# Altium footprint library My_Library.PcbLib: 118 footprints (part 6 of 8)
Each footprint in its own frame and in the unit in brackets; x right, y up, seen from the top. Pads: shape width x height; smd on the part's side, far side on the other; paste and mask are expansions set on the pad; w line width, h text height; cw(c..) or ccw(c..) is an arc to the next point about the centre after c.
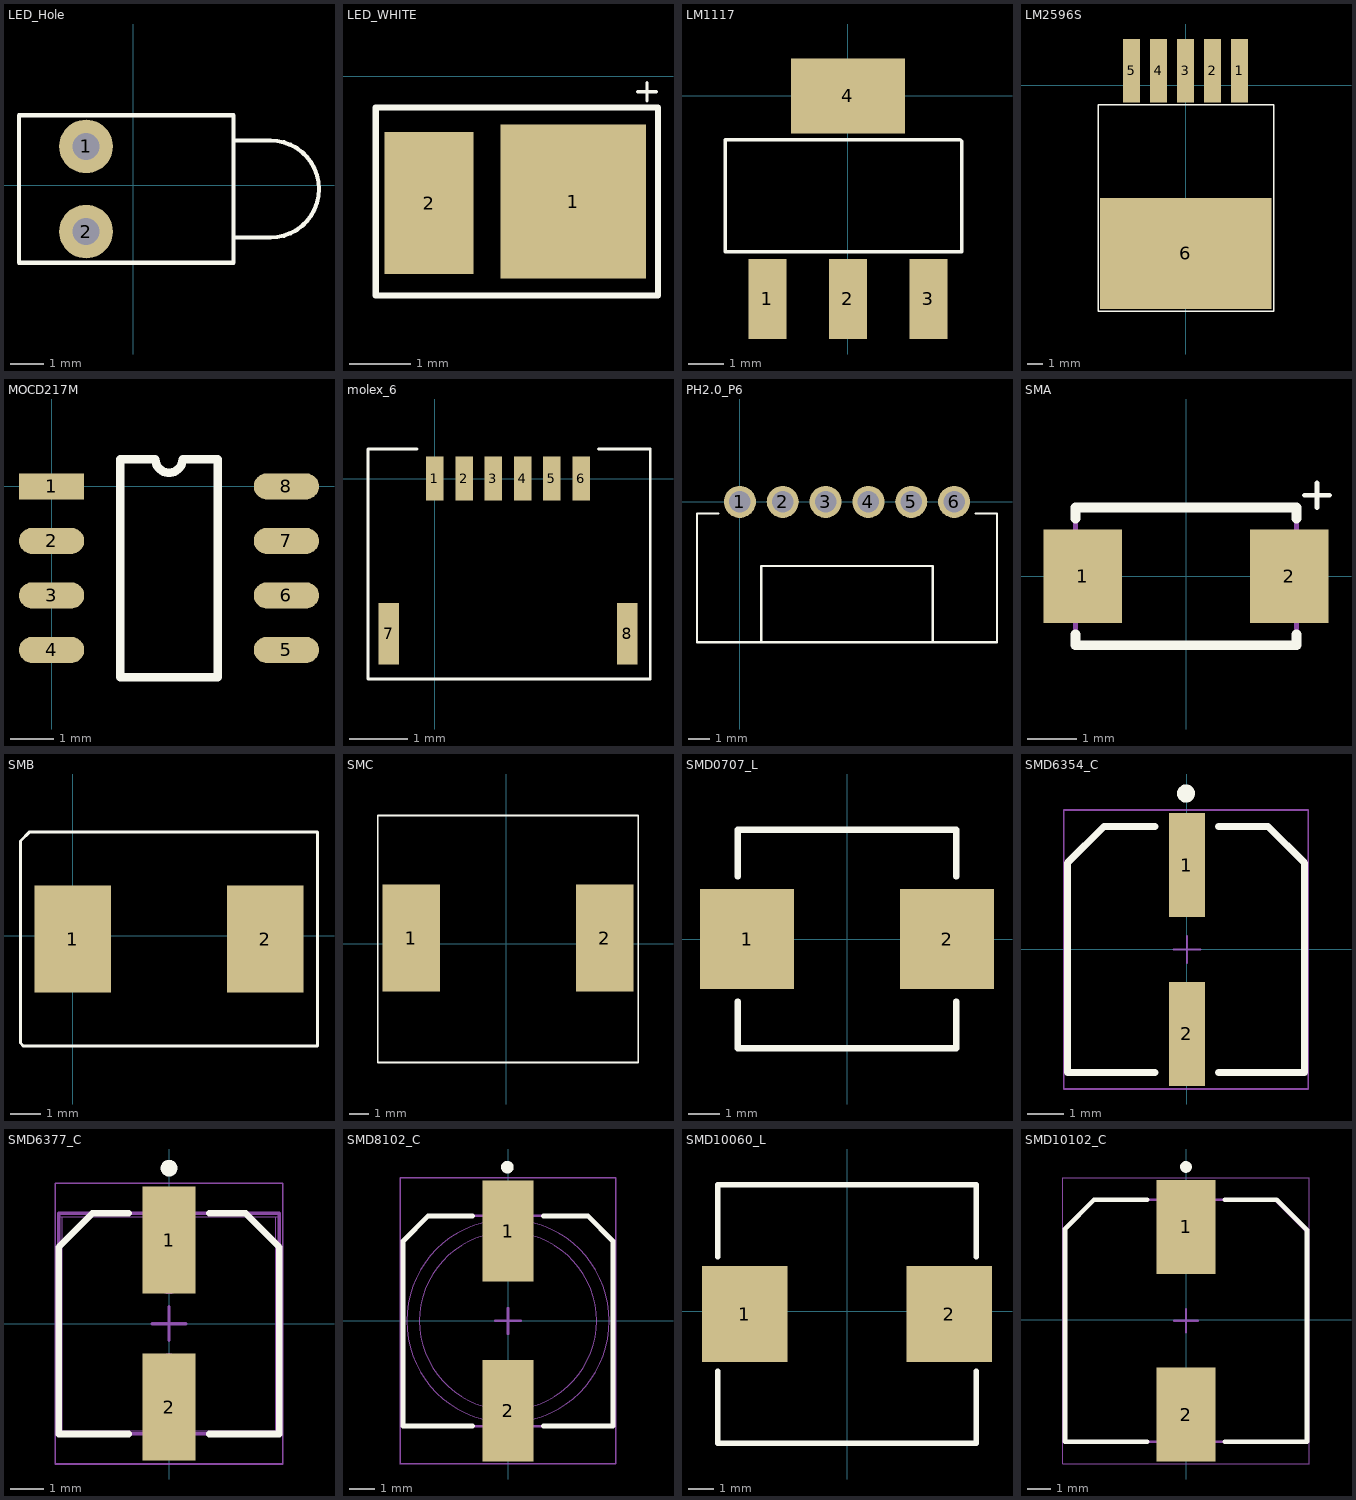
[diagram p5: the footprints below, top view; thin cyan lines are the x and y axes]

## LED_Hole [mm]
pads (2):
  round 1.6 hole 0.8: 1(-1.404,1.165) 2(-1.404,-1.375)
Top Overlay:
  lines w0.127: 2.996,-1.555 4.096,-1.555 ccw(c4.096,-0.105) 4.096,1.345 2.996,1.345 ; -3.404,-2.305 2.996,-2.305 2.996,2.095 -3.404,2.095 -3.404,-2.305

## LED_WHITE [mm]
pads (2):
  rect 2.36x2.49 smd: 1(10.185,-2.032)
  rect 1.44x2.3 smd: 2(7.849,-2.057)
Top Overlay:
  lines w0.05: 11.227,-0.254 11.532,-0.254 ; 11.379,-0.406 11.379,-0.102
  lines w0.1: 6.985,-3.556 6.985,-0.508 10.287,-0.508 11.557,-0.508 11.557,-3.556 11.303,-3.556 10.287,-3.556 6.985,-3.556
3D body: height 0.6, standoff 0, extent 6.985,-3.556 11.557,-0.508

## LM1117 [mm]
pads (4):
  rect 1.09x2.29 smd: 1(-2.3,-5.8) 2(0,-5.8) 3(2.3,-5.8)
  rect 3.25x2.15 smd: 4(0,0)
Top Overlay:
  lines w0.1: -3.5,-4.45 -3.5,-1.25 3.2,-1.25 3.25,-1.3 3.25,-4.45 -3.5,-4.45
3D body: height 1.8, standoff 0, extent -3.5,-4.45 3.25,-1.25

## LM2596S [mm]
pads (6):
  rect 1.07x4 smd: 1(3.4,0.9) 2(1.7,0.9) 3(0,0.9) 4(-1.7,0.9) 5(-3.4,0.9)
  rect 10.8x6.99 smd: 6(0,-10.6)
Top Overlay:
  lines w0.1: -5.5,-14.25 -5.5,-1.25 5.55,-1.25 5.55,-14.25 -5.5,-14.25
3D body: height 4.6, standoff 0, extent -5.5,-13.8 5.5,-1.25

## MOCD217M [mm]
pads (8):
  rect 1.52x0.61 smd: 1(0,0)
  oval 1.52x0.61 smd: 2(0,-1.27) 3(0,-2.54) 4(0,-3.81) 5(5.47,-3.81) 6(5.47,-2.54) 7(5.47,-1.27) 8(5.47,0)
Top Overlay:
  lines w0.2: 1.595,-4.445 1.595,0.635 2.417,0.635 ccw(c2.735,0.635) 3.052,0.635 3.875,0.635 3.875,-4.445 1.595,-4.445
3D body: height 3.63, standoff 0, extent 1.524,-4.445 3.937,0.635

## molex_6 [mm]
pads (8):
  rect 0.3x0.75 smd: 1(0,0) 2(0.5,0) 3(1,0) 4(1.5,0) 5(2,0) 6(2.5,0)
  rect 0.35x1.05 smd: 7(-0.79,-2.65) 8(3.29,-2.65)
Top Overlay:
  lines w0.05: -0.305,0.508 -1.143,0.508 -1.143,-3.429 3.683,-3.429 3.683,0.508 2.794,0.508
3D body: height 1.87, standoff 0, extent -1.143,-3.429 3.708,0.508

## PH2.0_P6 [mm]
pads (6):
  round 1.5 hole 1: 1(0,0) 2(2,0) 3(4,0) 4(6,0) 5(8,0) 6(10,0)
Top Overlay:
  lines w0.1: -1,-0.55 -2,-0.55 -2,-6.55 12,-6.55 12,-0.55 11,-0.55 ; 1,-6.55 1,-3 9,-3 9,-6.55
3D body: height 4.7, standoff 0, extent -2.01,-6.55 12,-0.56

## SMA [mm]
pads (2):
  rect 1.6x1.9 smd: 1(-2.1,0) 2(2.1,0)
Top Overlay:
  lines w0.1: 2.413,1.651 2.921,1.651 ; 2.667,1.397 2.667,1.905
  lines w0.2: -2.25,-1.175 -2.25,-1.4 2.25,-1.4 2.25,-1.175 ; -2.25,1.175 -2.25,1.4 2.25,1.4 2.25,1.175
Mechanical 13:
  lines w0.1: -2.25,-1.395 -2.25,1.395 2.25,1.395 2.25,-1.395 -2.25,-1.395
3D body: height 2.29, standoff 0, extent -2.25,-1.395 2.25,1.395

## SMB [mm]
pads (2):
  rect 2.5x3.5 smd: 1(0,-0.1) 2(6.3,-0.1)
Top Overlay:
  lines w0.1: -1.7,-3.5 -1.7,3.1 -1.4,3.4 8,3.4 8,3.2 8,-3.4 8,-3.6 -1.6,-3.6 -1.7,-3.5
3D body: height 3.5, standoff 0, extent -1.7,-3.6 8,3.4

## SMC [mm]
pads (2):
  rect 2.9x5.4 smd: 1(-4.8,0.3) 2(5,0.3)
Top Overlay:
  lines w0.1: -6.5,-6 6.7,-6 6.7,6.5 -6.5,6.5 -6.5,5.9 -6.5,1.3 -6.5,-3.5 -6.5,-6
3D body: height 4.5, standoff 0, extent -6.5,-6 6.8,6.5

## SMD0707_L [mm]
pads (2):
  rect 3x3.2 smd: 1(-3.2,0) 2(3.2,0)
Top Overlay:
  lines w0.2: -3.5,-2 -3.5,-3.5 3.5,-3.5 3.5,-2 ; -3.5,2 -3.5,3.5 3.5,3.5 3.5,2
3D body: height 3.5, standoff 0, extent -3.5,-3.5 3.5,3.5

## SMD6354_C [mm]
pads (2):
  rect 1x2.9 smd: 1(0,2.35) 2(0,-2.35)
Top Overlay:
  circle w0.25: c-0.025,4.345 r0.125
  lines w0.2: -0.889,-3.429 -3.327,-3.429 -3.327,2.413 -2.311,3.429 -2.184,3.429 -0.889,3.429 ; 0.889,-3.429 3.277,-3.429 3.277,2.413 2.261,3.429 1.794,3.429 0.889,3.429
Mechanical 15:
  lines w0.05: -0.381,0 0.381,0 ; 0,-0.381 0,0.381 ; -3.429,-3.886 3.378,-3.886 3.378,3.886 -3.429,3.886 -3.429,-3.886

## SMD6377_C [mm]
pads (2):
  rect 1.6x3.2 smd: 1(0,2.5) 2(0,-2.5)
Top Overlay:
  circle w0.25: c0,4.65 r0.125
  lines w0.2: -1.2,-3.3 -3.3,-3.3 -3.3,2.288 -2.288,3.3 -1.2,3.3 ; 1.2,-3.3 3.3,-3.3 3.3,2.288 2.288,3.3 1.2,3.3
Mechanical 13:
  lines w0.005: -3.3,-3.2 3.3,-3.2 ; -3.3,3.2 3.3,3.2 ; -3.2,-3.2 -3.2,3.2 ; -0.325,-1.225 cw(c0,-1.225) 0.325,-1.225 ; 3.2,-3.2 3.2,3.2 ; -0.325,1.225 ccw(c0,1.225) 0.325,1.225 -0.325,1.225
  lines w0.1: -3.3,-3.3 3.3,-3.3 3.3,3.3 -3.3,3.3 -3.3,-3.3
Mechanical 15:
  lines w0.05: -3.4,-4.2 3.4,-4.2 3.4,4.2 -3.4,4.2 -3.4,-4.2
  lines w0.1: -0.5,0 0.5,0 ; 0,-0.5 0,0.5
3D body: height 0.1, standoff 0, extent -0.325,-3.65 0.325,-1.225
3D body: height 0.1, standoff 0, extent -0.325,1.226 0.325,3.65
3D body: height 0.1, standoff 0, extent -0.326,0.899 0.326,1.226
3D body: height 0.1, standoff 0, extent -0.325,-1.225 0.326,-0.899
3D body: height 0.3, standoff 0.1, extent -3.3,-3.3 3.3,3.3
3D body: height 1.3, standoff 0.3, extent -3.3,1.2 3.3,3.3
3D body: height 1, standoff 0.3, extent -3.3,-3.3 3.3,-1.2
3D body: height 0.5, standoff 0.3, extent 3.2,-1.2 3.3,1.2
3D body: height 0.5, standoff 0.3, extent -3.3,-1.2 -3.2,1.2
3D body: height 1.8, standoff 0.3, extent -3.15,-3.149 3.149,3.149
3D body: height 2.3, standoff 1.8, extent -2.799,-2.799 2.8,2.799
3D body: height 8, standoff 2.3, extent -2.528,-3.151 2.528,-1.88
3D body: height 8, standoff 2.3, extent -3.157,-1.891 3.157,3.15

## SMD8102_C [mm]
pads (2):
  rect 2x4 smd: 1(0,3.55) 2(0,-3.55)
Top Overlay:
  circle w0.25: c-0.025,6.072 r0.125
  lines w0.2: -1.4,-4.15 -4.15,-4.15 -4.15,3.15 -3.15,4.15 -1.4,4.15 ; 1.4,-4.15 4.15,-4.15 4.15,3.15 3.15,4.15 1.4,4.15
Mechanical 13:
  circle w0.01: c0,0 r4
  circle w0.01: c0,0 r3.5
  lines w0.01: -0.45,-2.075 cw(c0,-2.075) 0.45,-2.075 -0.45,-2.075 ; -0.45,2.05 ccw(c0,2.05) 0.45,2.05 -0.45,2.05
  lines w0.05: -0.45,-2.075 -0.45,-4.975 0.45,-4.975 0.45,-2.075 ; -0.45,2.05 -0.45,4.95 0.45,4.95 0.45,2.05
  lines w0.1: -4.15,-4.15 -4.15,3.15 -3.15,4.15 3.15,4.15 4.15,3.15 4.15,-4.15 -4.15,-4.15
Mechanical 15:
  lines w0.05: -4.25,-5.65 -4.25,5.65 4.25,5.65 4.25,-5.65 -4.25,-5.65
  lines w0.1: -0.5,0 0.5,0 ; 0,-0.5 0,0.5
3D body: height 0.3, standoff 0.1, extent -4.151,-4.151 4.151,4.151
3D body: height 2, standoff 0.3, extent -3.999,-3.999 3.999,3.999
3D body: height 2.5, standoff 2, extent -3.499,-3.499 3.499,3.499
3D body: height 0.1, standoff 0, extent -0.449,2.051 0.449,4.949
3D body: height 0.1, standoff 0, extent -0.451,1.599 0.451,2.051
3D body: height 0.1, standoff 0, extent -0.451,-2.076 0.45,-1.625
3D body: height 0.1, standoff 0, extent -0.45,-4.975 0.449,-2.076
3D body: height 1.3, standoff 0.3, extent -4.15,3 -3,4.151
3D body: height 1.3, standoff 0.3, extent -3.15,4 3.15,4.151
3D body: height 1.3, standoff 0.3, extent 3,3 4.151,4.15
3D body: height 1.3, standoff 0.3, extent -4.151,-4.151 -4,3.15
3D body: height 1.3, standoff 0.3, extent 4,-4.151 4.151,3.15
3D body: height 1.3, standoff 0.3, extent -4.151,-4.151 4.15,-4
3D body: height 10.5, standoff 2.5, extent -3.501,-4.032 3.5,-2
3D body: height 10.5, standoff 2.5, extent -4.043,-2.001 4.032,4.041

## SMD10060_L [mm]
pads (2):
  rect 3.3x3.7 smd: 1(-3.95,-0.1) 2(3.95,-0.1)
Top Overlay:
  lines w0.2: -5,-2.3 -5,-5.1 5,-5.1 5,-2.3 ; -5,2.1 -5,4.9 5,4.9 5,2.1

## SMD10102_C [mm]
pads (2):
  rect 2.5x4 smd: 1(0,3.95) 2(0,-4.05)
Top Overlay:
  circle w0.25: c0,6.5 r0.125
  lines w0.2: -1.65,-5.2 -5.15,-5.2 -5.15,3.868 -3.918,5.1 -1.65,5.1 ; 1.65,-5.2 5.15,-5.2 5.15,3.817 3.867,5.1 1.65,5.1
Mechanical 13:
  lines w0.1: 5.15,-5.2 -5.15,-5.2 -5.15,3.893 -3.943,5.1 3.765,5.1 5.15,3.715 5.15,-5.2
Mechanical 15:
  lines w0.05: -5.25,-6.15 5.25,-6.15 5.25,6.05 -5.25,6.05 -5.25,-6.15
  lines w0.1: -0.5,-0.05 0.5,-0.05 ; 0,-0.55 0,0.45
3D body: height 0.1, standoff 0, extent -0.475,-5.7 0.475,-3.05
3D body: height 14.5, standoff 2, extent -3.999,-5.05 3.999,-3.051
3D body: height 1.3, standoff 0.2, extent -3.999,-5.05 3.999,-3.051
3D body: height 1.3, standoff 0.1, extent -5.15,5 5.15,5.1
3D body: height 1.3, standoff 0.1, extent -5.15,1.95 -5.05,5.1
3D body: height 1.3, standoff 0.1, extent -5.15,-5.2 -5.05,-2.05
3D body: height 0.8, standoff 0.1, extent -5.15,-2.05 -5.05,1.95
3D body: height 0.8, standoff 0.1, extent 5.05,-2.05 5.15,1.95
3D body: height 1.3, standoff 0.1, extent -5.15,-5.2 5.15,-5.1
3D body: height 0.2, standoff 0.1, extent -5.15,-5.2 5.15,5.1
3D body: height 1.3, standoff 0.1, extent 5.05,-5.2 5.15,-2.05
3D body: height 1.3, standoff 0.1, extent 5.05,1.95 5.15,5.1
3D body: height 2, standoff 1.3, extent -4.85,-4.9 4.849,4.799
3D body: height 1.3, standoff 0.2, extent -5.019,-3.073 4.99,4.938
3D body: height 14.5, standoff 2, extent -5.009,-3.054 5.001,4.958
3D body: height 0.1, standoff 0, extent -0.476,-3.051 0.476,-2.3
3D body: height 0.1, standoff 0, extent -0.502,2.962 0.448,5.612
3D body: height 0.1, standoff 0, extent -0.484,2.212 0.467,2.962